# EAGLE library part TMS320F28069M (library perspection)
IC MCU 32BIT 256KB FLASH 100LQFP Digi-key Page <http://www.digikey.com/product-detail/en/TMS320F28069MPZT/296-36224-5-ND/3789658>
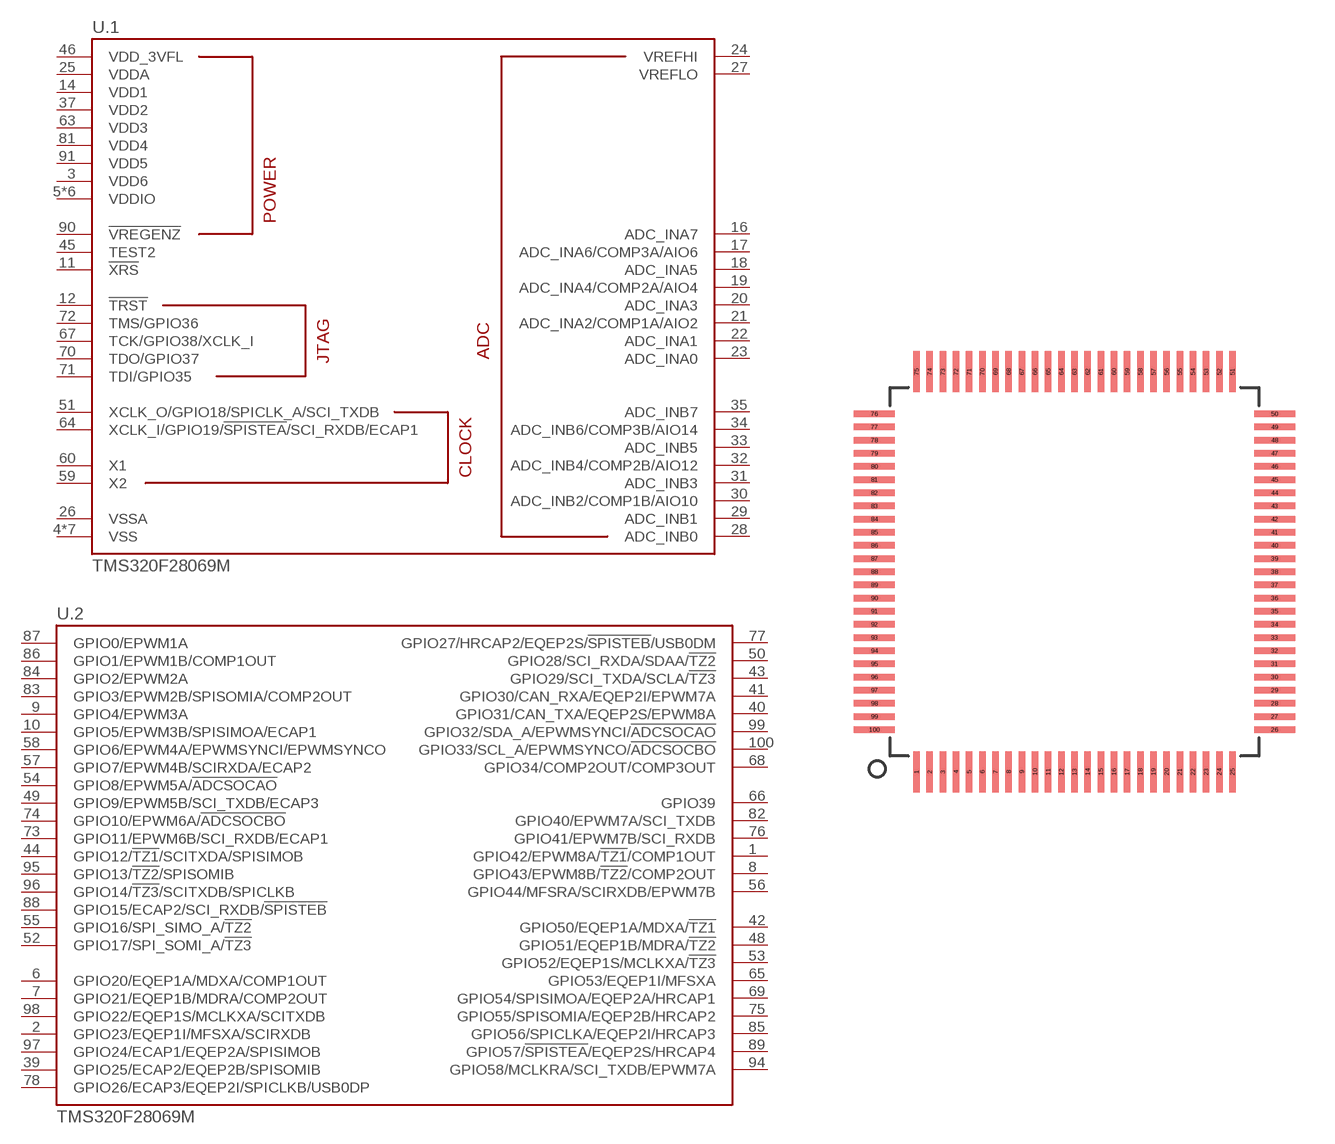
[diagram p3: symbol with the pads of TI-LQFP-100; footprint TI-LQFP-100]

Designator prefix U; gates .1=TMS320F28069MPZT-CORE .2=TMS320F28069MPZT-GPIO

## TMS320F28069MPZT (DIST_NAME: Digi-Key; DIST_PN: 296-36224-5-ND; MFG_NAME: Texas Instruments; MFG_PN: TMS320F28069MPZT)  [TI-LQFP-100]
1  .2:GPIO42/EPWM8A/!TZ1!/COMP1OUT
2  .2:GPIO23/EQEP1I/MFSXA/SCIRXDB
3  .1:VDD6
4  .1:VSS
5  .1:VDDIO
6  .2:GPIO20/EQEP1A/MDXA/COMP1OUT
7  .2:GPIO21/EQEP1B/MDRA/COMP2OUT
8  .2:GPIO43/EPWM8B/!TZ2!/COMP2OUT
9  .2:GPIO4/EPWM3A
10  .2:GPIO5/EPWM3B/SPISIMOA/ECAP1
11  .1:!XRS
12  .1:!TRST
13  .1:VDDIO
14  .1:VDD1
15  .1:VSS
16  .1:ADC_INA7
17  .1:ADC_INA6/COMP3A/AIO6
18  .1:ADC_INA5
19  .1:ADC_INA4/COMP2A/AIO4
20  .1:ADC_INA3
21  .1:ADC_INA2/COMP1A/AIO2
22  .1:ADC_INA1
23  .1:ADC_INA0
24  .1:VREFHI
25  .1:VDDA
26  .1:VSSA
27  .1:VREFLO
28  .1:ADC_INB0
29  .1:ADC_INB1
30  .1:ADC_INB2/COMP1B/AIO10
31  .1:ADC_INB3
32  .1:ADC_INB4/COMP2B/AIO12
33  .1:ADC_INB5
34  .1:ADC_INB6/COMP3B/AIO14
35  .1:ADC_INB7
36  .1:VSS
37  .1:VDD2
38  .1:VDDIO
39  .2:GPIO25/ECAP2/EQEP2B/SPISOMIB
40  .2:GPIO31/CAN_TXA/EQEP2S/EPWM8A
41  .2:GPIO30/CAN_RXA/EQEP2I/EPWM7A
42  .2:GPIO50/EQEP1A/MDXA/!TZ1
43  .2:GPIO29/SCI_TXDA/SCLA/!TZ3
44  .2:GPIO12/!TZ1!/SCITXDA/SPISIMOB
45  .1:TEST2
46  .1:VDD_3VFL
47  .1:VSS
48  .2:GPIO51/EQEP1B/MDRA/!TZ2
49  .2:GPIO9/EPWM5B/SCI_TXDB/ECAP3
50  .2:GPIO28/SCI_RXDA/SDAA/!TZ2
51  .1:XCLK_O/GPIO18/SPICLK_A/SCI_TXDB
52  .2:GPIO17/SPI_SOMI_A/!TZ3
53  .2:GPIO52/EQEP1S/MCLKXA/!TZ3
54  .2:GPIO8/EPWM5A/!ADCSOCAO
55  .2:GPIO16/SPI_SIMO_A/!TZ2
56  .2:GPIO44/MFSRA/SCIRXDB/EPWM7B
57  .2:GPIO7/EPWM4B/SCIRXDA/ECAP2
58  .2:GPIO6/EPWM4A/EPWMSYNCI/EPWMSYNCO
59  .1:X2
60  .1:X1
61  .1:VDDIO
62  .1:VSS
63  .1:VDD3
64  .1:XCLK_I/GPIO19/!SPISTEA!/SCI_RXDB/ECAP1
65  .2:GPIO53/EQEP1I/MFSXA
66  .2:GPIO39
67  .1:TCK/GPIO38/XCLK_I
68  .2:GPIO34/COMP2OUT/COMP3OUT
69  .2:GPIO54/SPISIMOA/EQEP2A/HRCAP1
70  .1:TDO/GPIO37
71  .1:TDI/GPIO35
72  .1:TMS/GPIO36
73  .2:GPIO11/EPWM6B/SCI_RXDB/ECAP1
74  .2:GPIO10/EPWM6A/!ADCSOCBO
75  .2:GPIO55/SPISOMIA/EQEP2B/HRCAP2
76  .2:GPIO41/EPWM7B/SCI_RXDB
77  .2:GPIO27/HRCAP2/EQEP2S/!SPISTEB!/USB0DM
78  .2:GPIO26/ECAP3/EQEP2I/SPICLKB/USB0DP
79  .1:VDDIO
80  .1:VSS
81  .1:VDD4
82  .2:GPIO40/EPWM7A/SCI_TXDB
83  .2:GPIO3/EPWM2B/SPISOMIA/COMP2OUT
84  .2:GPIO2/EPWM2A
85  .2:GPIO56/SPICLKA/EQEP2I/HRCAP3
86  .2:GPIO1/EPWM1B/COMP1OUT
87  .2:GPIO0/EPWM1A
88  .2:GPIO15/ECAP2/SCI_RXDB/!SPISTEB
89  .2:GPIO57/!SPISTEA!/EQEP2S/HRCAP4
90  .1:!VREGENZ
91  .1:VDD5
92  .1:VSS
93  .1:VDDIO
94  .2:GPIO58/MCLKRA/SCI_TXDB/EPWM7A
95  .2:GPIO13/!TZ2!/SPISOMIB
96  .2:GPIO14/!TZ3!/SCITXDB/SPICLKB
97  .2:GPIO24/ECAP1/EQEP2A/SPISIMOB
98  .2:GPIO22/EQEP1S/MCLKXA/SCITXDB
99  .2:GPIO32/SDA_A/EPWMSYNCI/!ADCSOCAO
100  .2:GPIO33/SCL_A/EPWMSYNCO/!ADCSOCBO

## Footprint TI-LQFP-100 (pad centres in mm)
smd 0.25 x 1.55: 1 -6,-7.6; 2 -5.5,-7.6; 3 -5,-7.6; 4 -4.5,-7.6; 5 -4,-7.6; 6 -3.5,-7.6; 7 -3,-7.6; 8 -2.5,-7.6; 9 -2,-7.6; 10 -1.5,-7.6; 11 -1,-7.6; 12 -0.5,-7.6; 13 0,-7.6; 14 0.5,-7.6; 15 1,-7.6; 16 1.5,-7.6; 17 2,-7.6; 18 2.5,-7.6; 19 3,-7.6; 20 3.5,-7.6; 21 4,-7.6; 22 4.5,-7.6; 23 5,-7.6; 24 5.5,-7.6; 25 6,-7.6; 51 6,7.6; 52 5.5,7.6; 53 5,7.6; 54 4.5,7.6; 55 4,7.6; 56 3.5,7.6; 57 3,7.6; 58 2.5,7.6; 59 2,7.6; 60 1.5,7.6; 61 1,7.6; 62 0.5,7.6; 63 0,7.6; 64 -0.5,7.6; 65 -1,7.6; 66 -1.5,7.6; 67 -2,7.6; 68 -2.5,7.6; 69 -3,7.6; 70 -3.5,7.6; 71 -4,7.6; 72 -4.5,7.6; 73 -5,7.6; 74 -5.5,7.6; 75 -6,7.6
smd 1.55 x 0.25: 26 7.6,-6; 27 7.6,-5.5; 28 7.6,-5; 29 7.6,-4.5; 30 7.6,-4; 31 7.6,-3.5; 32 7.6,-3; 33 7.6,-2.5; 34 7.6,-2; 35 7.6,-1.5; 36 7.6,-1; 37 7.6,-0.5; 38 7.6,0; 39 7.6,0.5; 40 7.6,1; 41 7.6,1.5; 42 7.6,2; 43 7.6,2.5; 44 7.6,3; 45 7.6,3.5; 46 7.6,4; 47 7.6,4.5; 48 7.6,5; 49 7.6,5.5; 50 7.6,6; 76 -7.6,6; 77 -7.6,5.5; 78 -7.6,5; 79 -7.6,4.5; 80 -7.6,4; 81 -7.6,3.5; 82 -7.6,3; 83 -7.6,2.5; 84 -7.6,2; 85 -7.6,1.5; 86 -7.6,1; 87 -7.6,0.5; 88 -7.6,0; 89 -7.6,-0.5; 90 -7.6,-1; 91 -7.6,-1.5; 92 -7.6,-2; 93 -7.6,-2.5; 94 -7.6,-3; 95 -7.6,-3.5; 96 -7.6,-4; 97 -7.6,-4.5; 98 -7.6,-5; 99 -7.6,-5.5; 100 -7.6,-6